# Altium footprint library L298N.PcbLib: 7 footprints
Each footprint in its own frame and in the unit in brackets; x right, y up, seen from the top. Pads: shape width x height; smd on the part's side, far side on the other; paste and mask are expansions set on the pad; w line width, h text height; cw(c..) or ccw(c..) is an arc to the next point about the centre after c.
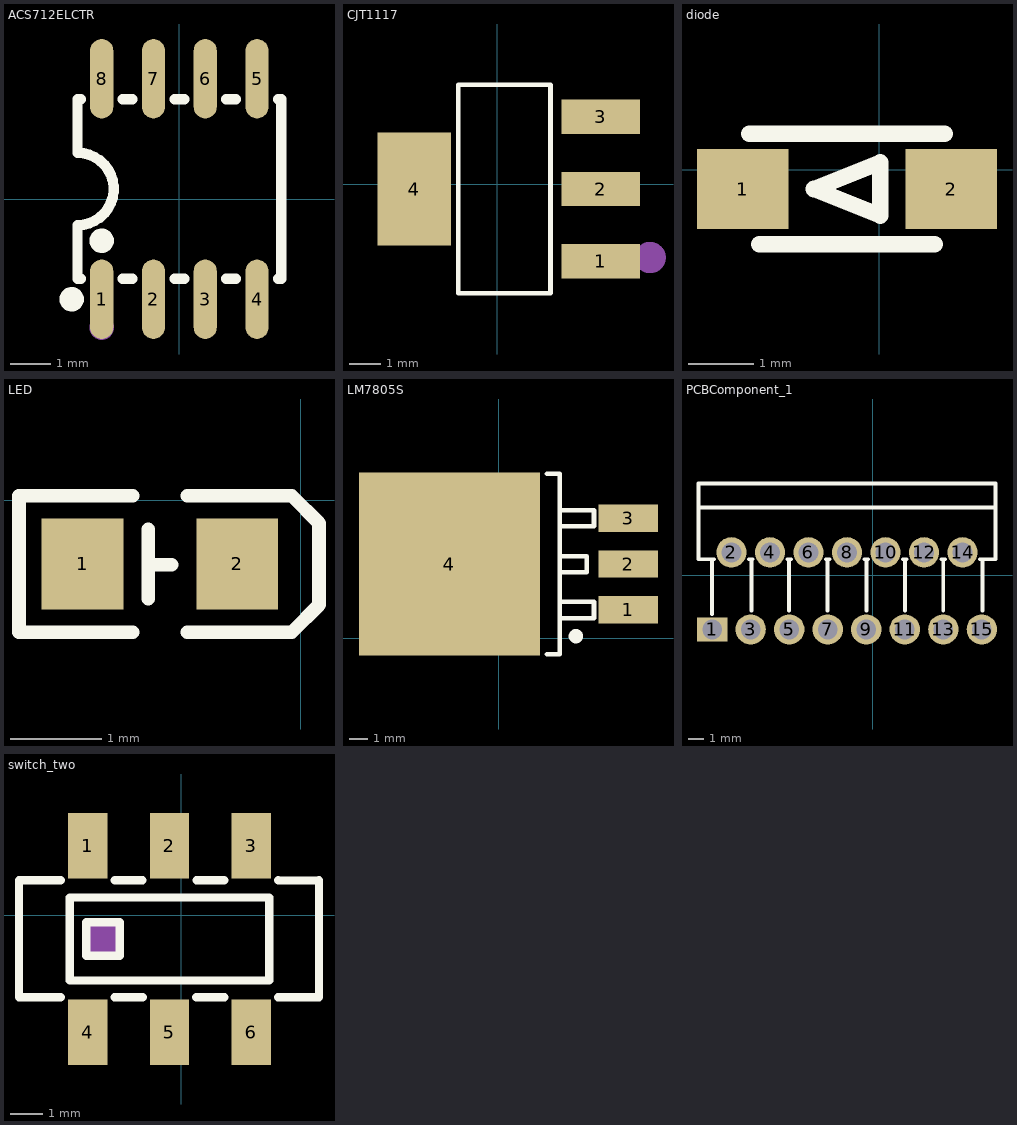
[diagram p0: the footprints below, top view; thin cyan lines are the x and y axes]

## ACS712ELCTR [mm]
pads (8):
  oval 0.568x1.95 smd: 1(-1.907,-2.454) 2(-0.637,-2.454) 3(0.633,-2.454) 4(1.903,-2.454) 5(1.903,2.956) 6(0.633,2.956) 7(-0.637,2.956) 8(-1.907,2.956)
Top Overlay:
  circle w0.3: c-2.644,-2.454 r0.15
  circle w0.3: c-1.907,-1.019 r0.15
  lines w0.254: -2.423,-1.949 -2.502,-1.949 -2.502,-0.638 ccw(c-2.502,0.251) -2.502,1.14 -2.502,2.451 -2.423,2.451 ; -1.392,-1.949 -1.153,-1.949 ; -1.392,2.451 -1.153,2.451 ; -0.122,-1.949 0.117,-1.949 ; -0.122,2.451 0.117,2.451 ; 1.148,-1.949 1.387,-1.949 ; 1.148,2.451 1.387,2.451 ; 2.418,-1.949 2.498,-1.949 2.498,2.451 2.418,2.451
Mechanical 15:
  circle w0.3: c-1.907,-3.149 r0.15

## CJT1117 [mm]
pads (4):
  rect 2.5x1.1 smd: 1(3.3,-2.454) 2(3.3,-0.154) 3(3.3,2.146)
  rect 2.34x3.6 smd: 4(-2.64,-0.154)
Top Overlay:
  lines w0.152: -1.241,-3.48 -1.241,3.173 1.701,3.173 1.701,-3.48 -1.241,-3.48
Mechanical 15:
  circle w0.5: c4.882,-2.341 r0.25

## diode [mm]
pads (2):
  rect 1.4x1.219 smd: 1(-2.094,-0.293) 2(1.106,-0.293)
Top Overlay:
  lines w0.254: -1.994,0.557 1.006,0.557 ; -1.84,-1.143 0.852,-1.143 ; -1.002,-0.293 0.014,0.113 0.014,-0.699 -1.002,-0.293
Mechanical 15:
  region: 0.511,-0.208 1.701,-0.208 1.701,-0.378 0.511,-0.378
  region: 1.206,0.307 1.206,-0.883 1.036,-0.883 1.036,0.307
  region: -2.689,-0.208 -1.499,-0.208 -1.499,-0.378 -2.689,-0.378

## LED [mm]
pads (2):
  rect 0.9x1 smd: 1(-2.4,-0.699) 2(-0.7,-0.699)
Top Overlay:
  lines w0.15: -3.1,0.031 -3.1,-1.449 -1.85,-1.449 ; -3.1,0.051 -1.85,0.051 ; -1.677,-1.08 -1.677,-0.318 ; -1.677,-0.705 -1.423,-0.705 ; -1.25,-1.449 -0.1,-1.449 0.2,-1.149 0.2,-1.049 0.2,-0.349 0.2,-0.249 -0.1,0.051 -1.25,0.051
Mechanical 15:
  region: -2.65,-0.599 -2.05,-0.599 -2.05,-0.749 -2.65,-0.749
  region: -0.95,-0.599 -0.35,-0.599 -0.35,-0.749 -0.95,-0.749
  region: -2.415,-0.972 -2.415,-0.372 -2.265,-0.372 -2.265,-0.972

## LM7805S [mm]
pads (4):
  rect 3.3x1.511 smd: 1(7.167,1.572) 2(7.167,4.112) 3(7.167,6.652)
  rect 10.02x10.122 smd: 4(-2.737,4.112)
Top Overlay:
  lines w0.254: 2.671,-0.889 3.372,-0.889 3.372,9.114 2.671,9.114 ; 3.372,1.113 5.272,1.113 5.272,2.012 3.372,2.012 ; 3.372,3.653 4.87,3.653 4.87,4.552 3.372,4.552 ; 3.372,6.193 5.272,6.193 5.272,7.092 3.372,7.092
  lines w0.399: 4.268,-0.089 cw(c4.27,0.112) 4.271,-0.089
Mechanical 15:
  circle w0.6: c7.931,1.598 r0.3

## PCBComponent_1 [mm]
pads (15):
  rect 2x1.6 hole 1.3: 1(-10.601,-3.572)
  round 2 hole 1.3: 2(-9.331,1.508) 3(-8.061,-3.572) 4(-6.791,1.508) 5(-5.521,-3.572) 6(-4.251,1.508) 7(-2.981,-3.572) 8(-1.711,1.508) 9(-0.441,-3.572) 10(0.829,1.508) 11(2.099,-3.572) 12(3.369,1.508) 13(4.639,-3.572) 14(5.909,1.508) 15(7.179,-3.572)
Top Overlay:
  lines w0.254: -11.511,4.458 8.089,4.458 ; -10.601,-2.556 -10.601,0.922 ; -10.477,1.058 -11.511,1.058 -11.511,6.058 8.089,6.058 8.089,1.058 7.055,1.058 ; -8.185,1.058 -7.937,1.058 ; -8.019,-2.342 -8.019,1.058 ; -5.645,1.058 -5.397,1.058 ; -5.53,-2.342 -5.53,1.058 ; -3.105,1.058 -2.857,1.058 ; -2.99,-2.342 -2.99,1.058 ; -0.565,1.058 -0.317,1.058 ; -0.424,-2.342 -0.424,1.058 ; 1.975,1.058 2.223,1.058 ; 2.116,-2.342 2.116,1.058 ; 4.515,1.058 4.763,1.058 ; 4.63,-2.342 4.63,1.058 ; 7.221,-2.342 7.221,1.058
Mechanical 15:
  lines w0.003: -1.736,1.268 -1.686,1.319

## switch_two [mm]
pads (6):
  rect 1.2x2 smd: 1(-2.853,2.128) 2(-0.353,2.128) 3(2.147,2.128) 4(-2.853,-3.572) 5(-0.353,-3.572) 6(2.147,-3.572)
Top Overlay:
  lines w0.254: -3.679,1.078 -4.953,1.078 -4.953,-2.5 -3.672,-2.5 ; -2.034,-2.5 -1.172,-2.5 ; -2.027,1.078 -1.179,1.078 ; 0.466,-2.5 1.328,-2.5 ; 0.473,1.078 1.321,1.078 ; 2.966,-2.5 4.219,-2.5 4.219,1.078 ; 2.973,1.078 4.219,1.056 ; -3.401,-1.992 -3.401,0.548 2.695,0.548 2.695,-1.992 -3.401,-1.992 ; -2.893,-1.23 -2.893,-0.214 -1.877,-0.214 -1.877,-1.23 -2.893,-1.23
Mechanical 15:
  region: -2.893,-0.214 -1.877,-0.214 -1.877,-1.23 -2.893,-1.23